# Altium footprint library Indicator.PcbLib: 51 footprints (part 4 of 4)
Each footprint in its own frame and in the unit in brackets; x right, y up, seen from the top. Pads: shape width x height; smd on the part's side, far side on the other; paste and mask are expansions set on the pad; w line width, h text height; cw(c..) or ccw(c..) is an arc to the next point about the centre after c.
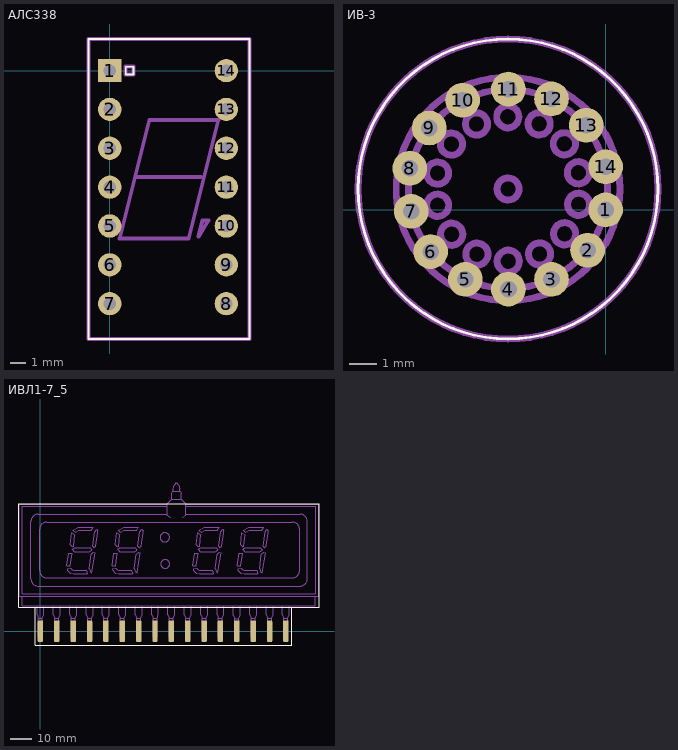
[diagram p3: the footprints below, top view; thin cyan lines are the x and y axes]

## АЛС338 [mm]
pads (14):
  rect 1.5x1.5 hole 0.8: 1(0,0)
  round 1.5 hole 0.8: 2(0,-2.5) 3(0,-5) 4(0,-7.5) 5(0,-10) 6(0,-12.5) 7(0,-15) 8(7.5,-15) 9(7.5,-12.5) 10(7.5,-10) 11(7.5,-7.5) 12(7.5,-5) 13(7.5,-2.5) 14(7.5,0)
Top Overlay:
  lines w0.1: -1.372,-17.272 8.992,-17.272 8.992,2.032 -1.372,2.032 -1.372,-17.272 ; 1.016,-0.254 1.524,-0.254 1.524,0.254 1.016,0.254 1.016,-0.254
Mechanical 1:
  lines w0.25: 1.778,-6.858 5.842,-6.858 ; -1.372,-17.272 8.992,-17.272 8.992,2.032 -1.372,2.032 -1.372,-17.272 ; 0.635,-10.795 2.54,-3.175 6.985,-3.175 5.08,-10.795 0.635,-10.795 ; 1.016,-0.254 1.524,-0.254 1.524,0.254 1.016,0.254 1.016,-0.254 ; 5.715,-10.668 6.35,-9.652 5.969,-9.652 5.715,-10.668

## ИВ-3 [mm]
pads (14):
  round 1.25 hole 0.6: 1(0,0) 2(-0.65,-1.45) 3(-1.95,-2.5) 4(-3.5,-2.85) 5(-5.05,-2.5) 6(-6.3,-1.5) 7(-7,-0.05) 8(-7.05,1.5) 9(-6.35,2.95) 10(-5.15,3.95) 11(-3.5,4.35) 12(-1.95,4) 13(-0.7,3.05) 14(0,1.55)
Top Overlay:
  circle w0.1: c-3.515,0.754 r5.4
Mechanical 1:
  circle w0.25: c-3.515,0.754 r5.4
  circle w0.25: c-3.515,0.754 r4.027
  circle w0.25: c-3.515,0.754 r3.581
  circle w0.25: c-2.394,3.1 r0.4
  circle w0.25: c-2.379,-1.584 r0.4
  circle w0.25: c-1.487,2.38 r0.4
  circle w0.25: c-5.553,2.369 r0.4
  circle w0.25: c-1.477,-0.86 r0.4
  circle w0.25: c-0.974,0.203 r0.4
  circle w0.25: c-0.982,1.339 r0.4
  circle w0.25: c-4.65,3.093 r0.4
  circle w0.25: c-3.523,3.354 r0.4
  circle w0.25: c-5.543,-0.874 r0.4
  circle w0.25: c-3.515,0.754 r0.397
  circle w0.25: c-4.635,-1.592 r0.4
  circle w0.25: c-3.506,-1.846 r0.4
  circle w0.25: c-6.052,1.325 r0.4
  circle w0.25: c-6.048,0.167 r0.4

## ИВЛ1-7_5 [mm]
pads (16):
  rrect50% 2.5x10 smd: 1(0,0) 2(7.5,0) 3(15,0) 4(22.5,0) 5(30,0) 6(37.5,0) 7(45,0) 8(52.5,0) 9(60,0) 10(67.5,0) 11(75,0) 12(82.5,0) 13(90,0) 14(97.5,0) 15(105,0) 16(112.5,0)
Top Overlay:
  lines w0.1: -2.33,10.98 -2.33,-6.52 115.17,-6.52 115.17,10.98 ; -9.83,10.98 127.67,10.98 127.67,58.48 -9.83,58.48 -9.83,10.98
Mechanical 1:
  drawing of 397 lines, arcs and shapes, not listed